# EAGLE library part CONN_12 (library SparkFun-Connectors_extra_pin)
Multi connection point. Often used as Generic Header-pin footprint for 0.1 inch spaced/style header connections On any of the 0.1 inch spaced packages, you can populate with these: Break Away Headers - Straight <https://www.sparkfun.com/products/116> (PRT-00116) Break Away Male Headers - Right Angle <https://www.sparkfun.com/products/553> (PRT-00553) Female Headers <https://www.sparkfun.com/products/115> (PRT-00115) Break Away Headers - Machine Pin <https://www.sparkfun.com/products/117> (PRT-00117) Break Away Female Headers - Swiss Machine Pin <https://www.sparkfun.com/products/743> (PRT-00743) For SCREWTERMINALS and SPRING TERMINALS visit here: Screw Terimnals on SparkFun.com <https://www.sparkfun.com/search/results?term=Screw+Terminals> (5mm/3.5mm/2.54mm spacing) This device is also useful as a general connection point to wire up your design to another part of your project. Our various solder wires solder well into these plated through hole pads. Hook-Up Wire - Assortment (Stranded, 22 AWG) <https://www.sparkfun.com/products/11375> (PRT-11375) Hook-Up Wire - Assortment (Solid Core, 22 AWG) <https://www.sparkfun.com/products/11367> (PRT-11367) View the entire wire category on our website here <https://www.sparkfun.com/categories/141> Special notes: Molex polarized connector foot print use with SKU : PRT-08231 with associated crimp pins and housings. 1MM SMD Version SKU: PRT-10208 NOTES ON THE VARIANTS LOCK and LOCK_LONGPADS... This footprint was designed to help hold the alignment of a through-hole component (i.e. 6-pin header) while soldering it into place. You may notice that each hole has been shifted either up or down by 0.005 of an inch from it's more standard position (which is a perfectly straight line). This slight alteration caused the pins (the squares in the middle) to touch the edges of the holes. Because they are alternating, it causes a "brace" to hold the component in place. 0.005 has proven to be the perfect amount of "off-center" position when using our standard breakaway headers. Although looks a little odd when you look at the bare footprint, once you have a header in there, the alteration is very hard to notice. Also,if you push a header all the way into place, it is covered up entirely on the bottom side.
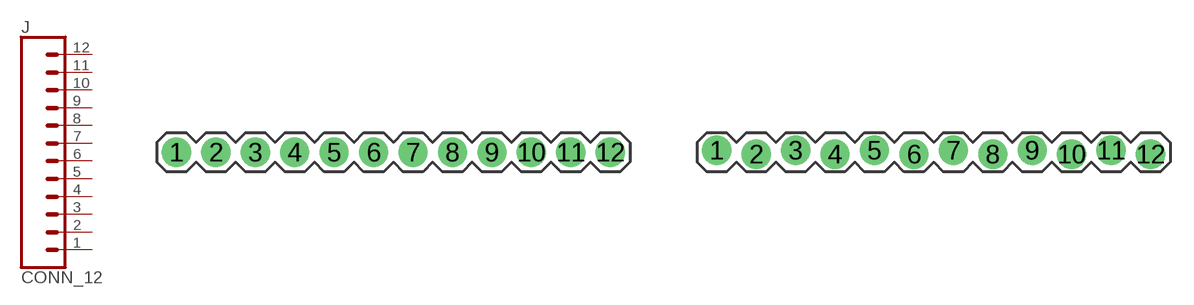
[diagram p18: symbol with the pads of 1X12; footprints 1X12, 1X12_LOCK]

Designator prefix J

## CONN_12  [1X12]
1  1  pas
2  2  pas
3  3  pas
4  4  pas
5  5  pas
6  6  pas
7  7  pas
8  8  pas
9  9  pas
10  10  pas
11  11  pas
12  12  pas

## CONN_12LOCK  [1X12_LOCK]
Pads as for 1X12

## CONN_12LOCK_LONGPADS  [1X12_LOCK_LONGPADS]
Pads as for 1X12

## CONN_12MACHINE-PIN_LOCK (PROD_ID: CONN-09704)  [1X12_MACHINE-PIN-HEADER_LOCK.004]
Pads as for 1X12

## CONN_12LONGPADS  [1X12_LONGPADS]
Pads as for 1X12

## CONN_12POGOPIN_HOLES_ONLY  [1X12_HOLES_ONLY]
Pads as for 1X12

## CONN_121X12_NO_SILK_KIT  [1X12_NO_SILK_KIT]
Pads as for 1X12

## CONN_12NO_SILK  [1X12_NO_SILK]
Pads as for 1X12

## CONN_12LOCK_NO_SILK  [1X12_LOCK_NO_SILK]
Pads as for 1X12

## CONN_12SM_SQ_NO_SILK  [1X12_SM_SQ_NOSILK]
Pads as for 1X12

## CONN_12CASTELLATED  [1X12_CASTELLATED]
1  1  pas
1B  1  pas
2  2  pas
2B  2  pas
3  3  pas
3B  3  pas
4  4  pas
4B  4  pas
5  5  pas
5B  5  pas
6  6  pas
6B  6  pas
7  7  pas
7B  7  pas
8  8  pas
8B  8  pas
9  9  pas
9B  9  pas
10  10  pas
10B  10  pas
11  11  pas
11B  11  pas
12  12  pas
12B  12  pas

## CONN_12SMD (PROD_ID: CONN-15197)  [1X12_SMD]
Pads as for 1X12

## CONN_12SMD_ALT (PROD_ID: CONN-15197)  [1X12_SMD_ALT]
Pads as for 1X12

## CONN_12SMD_COMBINED (PROD_ID: CONN-15197)  [1X12_SMD_COMBINED]
Pads as for 1X12

## CONN_12SMD_COMNINED_NC (PROD_ID: CONN-15197)  [1X12_SMD_COMBINED_NC]
1  1  pas
1@2  1  pas
2  2  pas
2@2  2  pas
3  3  pas
3@2  3  pas
4  4  pas
4@2  4  pas
5  5  pas
5@2  5  pas
6  6  pas
6@2  6  pas
7  7  pas
7@2  7  pas
8  8  pas
8@2  8  pas
9  9  pas
9@2  9  pas
10  10  pas
10@2  10  pas
11  11  pas
11@2  11  pas
12  12  pas
12@2  12  pas

## CONN_12SMD_MALE  [1X12_SMD_MALE]
Pads as for 1X12

## CONN_12FPC_12_0.5MM (PROD_ID: CONN-15766)  [FPC_12_0.5MM]
Pads as for 1X12

## Footprint 1X12 (pad centres in mm)
Plated Through Hole -12 Pin Specifications: Pin count:12 Pin pitch:0.1" Example device(s): CONN_12
drill 1.016 pad 1.88: 1 0,0; 2 2.54,0; 3 5.08,0; 4 7.62,0; 5 10.16,0; 6 12.7,0; 7 15.24,0; 8 17.78,0; 9 20.32,0; 10 22.86,0; 11 25.4,0; 12 27.94,0

## Footprint 1X12_LOCK (pad centres in mm)
Plated Through Hole -12 Pin Locking Footprint Holes are offset 0.005", to hold pins in place during soldering. Specifications: Pin count:12 Pin pitch:0.1" Example device(s): CONN_12
drill 1.016 pad 1.88: 1 0,0.127; 2 2.54,-0.127; 3 5.08,0.127; 4 7.62,-0.127; 5 10.16,0.127; 6 12.7,-0.127; 7 15.24,0.127; 8 17.78,-0.127; 9 20.32,0.127; 10 22.86,-0.127; 11 25.4,0.127; 12 27.94,-0.127

## Footprint 1X12_LOCK_LONGPADS (pad centres in mm)
Plated Through Hole -12 Pin Locking Footprint with Long Pads Holes are offset 0.005", to hold pins in place during soldering. Specifications: Pin count:12 Pin pitch:0.1" Example device(s): CONN_12
drill 1.016 long: 1 0,0.127; 2 2.54,-0.127; 3 5.08,0.127; 4 7.62,-0.127; 5 10.16,0.127; 6 12.7,-0.127; 7 15.24,0.127; 8 17.78,-0.127; 9 20.32,0.127; 10 22.86,-0.127; 11 25.4,0.127; 12 27.94,-0.127

## Footprint 1X12_MACHINE-PIN-HEADER_LOCK.004 (pad centres in mm)
Plated Through Hole -12 Pin Machine Pin Headers Holes are offset 0.005", to hold pins in place during soldering. Specifications: Pin count:12 Pin pitch:0.1" Example device(s): CONN_12
drill 0.889 pad 1.88: 1 0,0.102; 2 2.54,-0.102; 3 5.08,0.102; 4 7.62,-0.102; 5 10.16,0.102; 6 12.7,-0.102; 7 15.24,0.102; 8 17.78,-0.102; 9 20.32,0.102; 10 22.86,-0.102; 11 25.4,0.102; 12 27.94,-0.102

## Footprint 1X12_LONGPADS (pad centres in mm)
Plated Through Hole -12 Pin Long Pads Holes are offset 0.005", to hold pins in place during soldering. Specifications: Pin count:12 Pin pitch:0.1" Example device(s): CONN_12
drill 1.118 pad 1.88 long: 1 0,0; 2 2.54,0; 3 5.08,0; 4 7.62,0; 5 10.16,0; 6 12.7,0; 7 15.24,0; 8 17.78,0; 9 20.32,0; 10 22.86,0; 11 25.4,0; 12 27.94,0

## Footprint 1X12_HOLES_ONLY (pad centres in mm)
Holes -12 Pin No plating, no silk Specifications: Pin count:12 Pin pitch:0.1" Example device(s): CONN_12
drill 0.889 pad 0.813: 1 0,0; 2 2.54,0; 3 5.08,0; 4 7.62,0; 5 10.16,0; 6 12.7,0; 7 15.24,0; 8 17.78,0; 9 20.32,0; 10 22.86,0; 11 25.4,0; 12 27.94,0
hole 1.473 at 0,0
hole 1.473 at 2.54,0
hole 1.473 at 5.08,0
hole 1.473 at 7.62,0
hole 1.473 at 10.16,0
hole 1.473 at 12.7,0
hole 1.473 at 15.24,0
hole 1.473 at 17.78,0
hole 1.473 at 20.32,0
hole 1.473 at 22.86,0
hole 1.473 at 25.4,0
hole 1.473 at 27.94,0

## Footprint 1X12_NO_SILK_KIT (pad centres in mm)
Plated Through Hole -12 Pin No Silk Kit Mask on one side only for soldering kits. Specifications: Pin count:12 Pin pitch:0.1" Example device(s): CONN_12
drill 1.016 pad 1.88: 1 0,0; 2 2.54,0; 3 5.08,0; 4 7.62,0; 5 10.16,0; 6 12.7,0; 7 15.24,0; 8 17.78,0; 9 20.32,0; 10 22.86,0; 11 25.4,0; 12 27.94,0

## Footprint 1X12_NO_SILK (pad centres in mm)
Plated Through Hole -12 Pin No Silk Specifications: Pin count:12 Pin pitch:0.1" Example device(s): CONN_12
drill 1.016 pad 1.88: 1 0,0; 2 2.54,0; 3 5.08,0; 4 7.62,0; 5 10.16,0; 6 12.7,0; 7 15.24,0; 8 17.78,0; 9 20.32,0; 10 22.86,0; 11 25.4,0; 12 27.94,0

## Footprint 1X12_LOCK_NO_SILK (pad centres in mm)
Plated Through Hole -12 Pin Locking Footprint No Silk Holes are offset 0.005", to hold pins in place during soldering. Specifications: Pin count:12 Pin pitch:0.1" Example device(s): CONN_12
drill 1.016 pad 1.88: 1 0,0.127; 2 2.54,-0.127; 3 5.08,0.127; 4 7.62,-0.127; 5 10.16,0.127; 6 12.7,-0.127; 7 15.24,0.127; 8 17.78,-0.127; 9 20.32,0.127; 10 22.86,-0.127; 11 25.4,0.127; 12 27.94,-0.127

## Footprint 1X12_SM_SQ_NOSILK (pad centres in mm)
drill 1.016 pad 1.27 square: 1 0,0; 2 2.54,0; 3 5.08,0; 4 7.62,0; 5 10.16,0; 6 12.7,0; 7 15.24,0; 8 17.78,0; 9 20.32,0; 10 22.86,0; 11 25.4,0; 12 27.94,0

## Footprint 1X12_CASTELLATED (pad centres in mm)
Plated Through Hole - 4 Pin No Silk Outline Specifications: Pin count:4 Pin pitch:0.1" Example device(s): CONN_04
drill 0.85 pad 1.016: 1 0,0; 2 0,2.54; 3 0,5.08; 4 0,7.62; 5 0,10.16; 6 0,12.7; 7 0,15.24; 8 0,17.78; 9 0,20.32; 10 0,22.86; 11 0,25.4; 12 0,27.94
drill 1.7 pad 1.75: 1B -1.57,0; 2B -1.57,2.54; 3B -1.57,5.08; 4B -1.57,7.62; 5B -1.57,10.16; 6B -1.57,12.7; 7B -1.57,15.24; 8B -1.57,17.78; 9B -1.57,20.32; 10B -1.57,22.86; 11B -1.57,25.4; 12B -1.57,27.94

## Footprint 1X12_SMD (pad centres in mm)
SMD - 12 Pin Vertical Female SMD Specifications: Pin count: 12 Pin pitch: 0.1" Datasheet referenced for footprint <http://cdn.sparkfun.com/datasheets/Prototyping/femaleSMDheader.pdf> Example device(s): CONN_12
smd 1 x 2: 1 -1.27,1.65; 2 -3.81,-1.65; 3 -6.35,1.65; 4 -8.89,-1.65; 5 -11.43,1.65; 6 -13.97,-1.65; 7 -16.51,1.65; 8 -19.05,-1.65; 9 -21.59,1.65; 10 -24.13,-1.65; 11 -26.67,1.65; 12 -29.21,-1.65

## Footprint 1X12_SMD_ALT (pad centres in mm)
SMD - 12 Pin Vertical Female SMD Alt Alternate pin configuration Specifications: Pin count: 12 Pin pitch: 0.1" Datasheet referenced for footprint <http://cdn.sparkfun.com/datasheets/Prototyping/femaleSMDheader.pdf> Example device(s): CONN_12
smd 1 x 2: 1 -1.27,-1.65; 2 -3.81,1.65; 3 -6.35,-1.65; 4 -8.89,1.65; 5 -11.43,-1.65; 6 -13.97,1.65; 7 -16.51,-1.65; 8 -19.05,1.65; 9 -21.59,-1.65; 10 -24.13,1.65; 11 -26.67,-1.65; 12 -29.21,1.65

## Footprint 1X12_SMD_COMBINED (pad centres in mm)
SMD - 12 Pin Vertical Femal SMD Combined Specifications: Pin count: 12 Pin pitch: 0.1" Datasheet referenced for footprint <http://cdn.sparkfun.com/datasheets/Prototyping/maleSMDheader.pdf> Example device(s): CONN_12
smd 1 x 2: 1 0,1.65; 2 2.54,1.65; 3 5.08,1.65; 4 7.62,1.652; 5 10.16,1.65; 6 12.7,1.652; 7 15.24,1.65; 8 17.78,1.652; 9 20.32,1.65; 10 22.86,1.652; 11 25.4,1.65; 12 27.94,1.652

## Footprint 1X12_SMD_COMBINED_NC (pad centres in mm)
SMD - 12 Pin Vertical Female SMD Combined No Connect Specifications: Pin count: 12 Pin pitch: 0.1" Datasheet referenced for footprint <http://cdn.sparkfun.com/datasheets/Prototyping/maleSMDheader.pdf> Example device(s): CONN_12
smd 1 x 2: 1 1.27,1.65; 1@2 1.27,-1.65; 2 3.81,-1.65; 2@2 3.81,1.65; 3 6.35,1.65; 3@2 6.35,-1.65; 4 8.89,-1.65; 4@2 8.89,1.65; 5 11.43,1.65; 5@2 11.43,-1.65; 6 13.97,-1.65; 6@2 13.97,1.65; 7 16.51,1.65; 7@2 16.51,-1.65; 8 19.05,-1.65; 8@2 19.05,1.65; 9 21.59,1.65; 9@2 21.59,-1.65; 10 24.13,-1.65; 10@2 24.13,1.65; 11 26.67,1.65; 11@2 26.67,-1.65; 12 29.21,-1.65; 12@2 29.21,1.65

## Footprint 1X12_SMD_MALE (pad centres in mm)
SMD - 12 Pin Vertical Male Specifications: Pin count: 12 Pin pitch: 0.1" Datasheet referenced for footprint <http://cdn.sparkfun.com/datasheets/Prototyping/maleSMDheader.pdf> Example device(s): CONN_12
smd 1.02 x 6: 1 0,0; 2 2.54,0; 3 5.08,0; 4 7.62,0; 5 10.16,0; 6 12.7,0; 7 15.24,0; 8 17.78,0; 9 20.32,0; 10 22.86,0; 11 25.4,0; 12 27.94,0

## Footprint FPC_12_0.5MM (pad centres in mm)
smd 0.3 x 0.8: 1 -2.75,1.35; 2 -2.25,1.35; 3 -1.75,1.35; 4 -1.25,1.35; 5 -0.75,1.35; 6 -0.25,1.35; 7 0.25,1.35; 8 0.75,1.35; 9 1.25,1.35; 10 1.75,1.35; 11 2.25,1.35; 12 2.75,1.35
smd 0.4 x 0.8: MP1 -3.75,-1.15; MP2 3.75,-1.15